# Altium footprint library DMP3010LK3-13.PcbLib: 1 footprints
Each footprint in its own frame and in the unit in brackets; x right, y up, seen from the top. Pads: shape width x height; smd on the part's side, far side on the other; paste and mask are expansions set on the pad; w line width, h text height; cw(c..) or ccw(c..) is an arc to the next point about the centre after c.
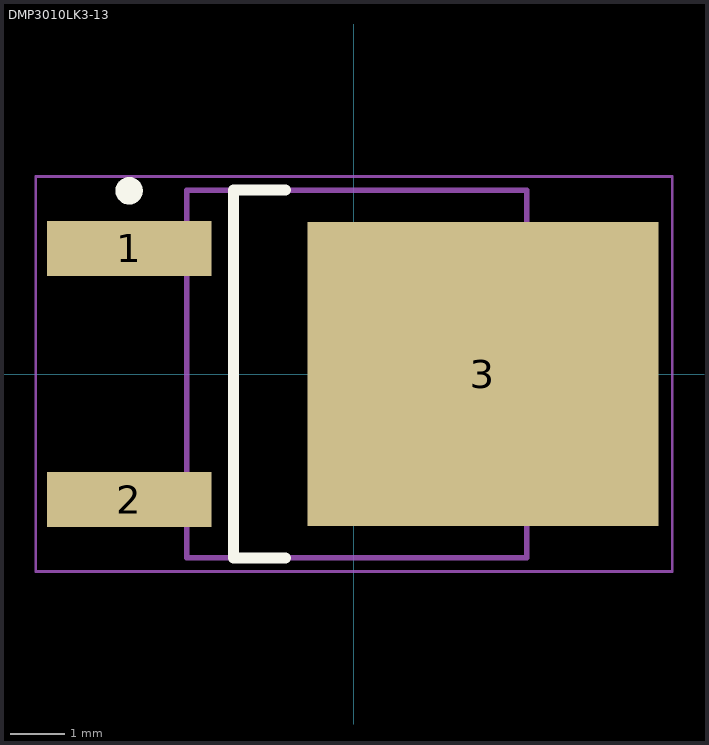
[diagram p0: the footprint, top view; thin cyan lines are the x and y axes]

## DMP3010LK3-13 [mm] "D-PAK, 3-Pads, Body 6.20x6.71mm (max), IPC Medium Density"
height 2.39
pads (3):
  rect 3x1 smd: 1(-4.1,2.29) 2(-4.1,-2.29)
  rect 6.4x5.55 smd: 3(2.35,0)
Top Overlay:
  circle w0.25: c-4.1,3.34 r0.125
  lines w0.2: -1.25,-3.35 -2.2,-3.35 -2.2,3.35 -1.25,3.35
Assembly Top:
  lines w0.1: -3.05,-3.35 3.15,-3.35 3.15,3.35 -3.05,3.35 -3.05,-3.35
Courtyard Top:
  lines w0.05: -5.8,-3.6 5.8,-3.6 5.8,3.6 -5.8,3.6 -5.8,-3.6
  lines w0.1: -0.5,0 0.5,0 ; 0,-0.5 0,0.5
3D body "DPAK229P991X239-3N.step": height 2.39, standoff 0, extent -4.865,-3.35 5.04,3.35